# EAGLE library part E-19SMD (library MarAlert)
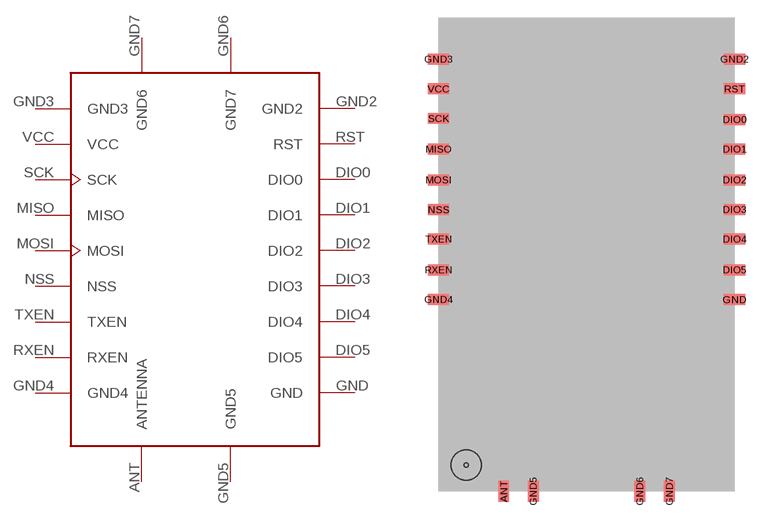
[diagram p1: symbol with the pads of EM19SMD; footprint EM19SMD]

Designator prefix -

## E-19SMD  [EM19SMD]
ANT  ANTENNA
DIO0  DIO0
DIO1  DIO1
DIO2  DIO2
DIO3  DIO3
DIO4  DIO4
DIO5  DIO5
GND  GND  pwr
GND2  GND2  pwr
GND3  GND3  pwr
GND4  GND4  pwr
GND5  GND5  pwr
GND6  GND7  pwr
GND7  GND6  pwr
MISO  MISO  out
MOSI  MOSI  in
NSS  NSS  in
RST  RST  in
RXEN  RXEN  in
SCK  SCK  in
TXEN  TXEN  in
VCC  VCC  pwr

## Footprint EM19SMD (pad centres in mm)
smd 0.914 x 1.778: ANT -7,-20; GND5 -4.5,-20; GND6 4.5,-20; GND7 7,-20
smd 1.778 x 0.914: DIO0 12.5,11.4; DIO1 12.5,8.9; DIO2 12.5,6.3; DIO3 12.5,3.8; DIO4 12.5,1.3; DIO5 12.5,-1.3; GND 12.5,-3.8; GND2 12.5,16.5; GND3 -12.5,16.5; GND4 -12.5,-3.8; MISO -12.5,8.9; MOSI -12.5,6.3; NSS -12.5,3.8; RST 12.5,14; RXEN -12.5,-1.3; SCK -12.5,11.5; TXEN -12.5,1.3; VCC -12.5,14